# Altium footprint library Package_TO_SOT_SMD.PcbLib: 125 footprints (part 3 of 8)
Each footprint in its own frame and in the unit in brackets; x right, y up, seen from the top. Pads: shape width x height; smd on the part's side, far side on the other; paste and mask are expansions set on the pad; w line width, h text height; cw(c..) or ccw(c..) is an arc to the next point about the centre after c.
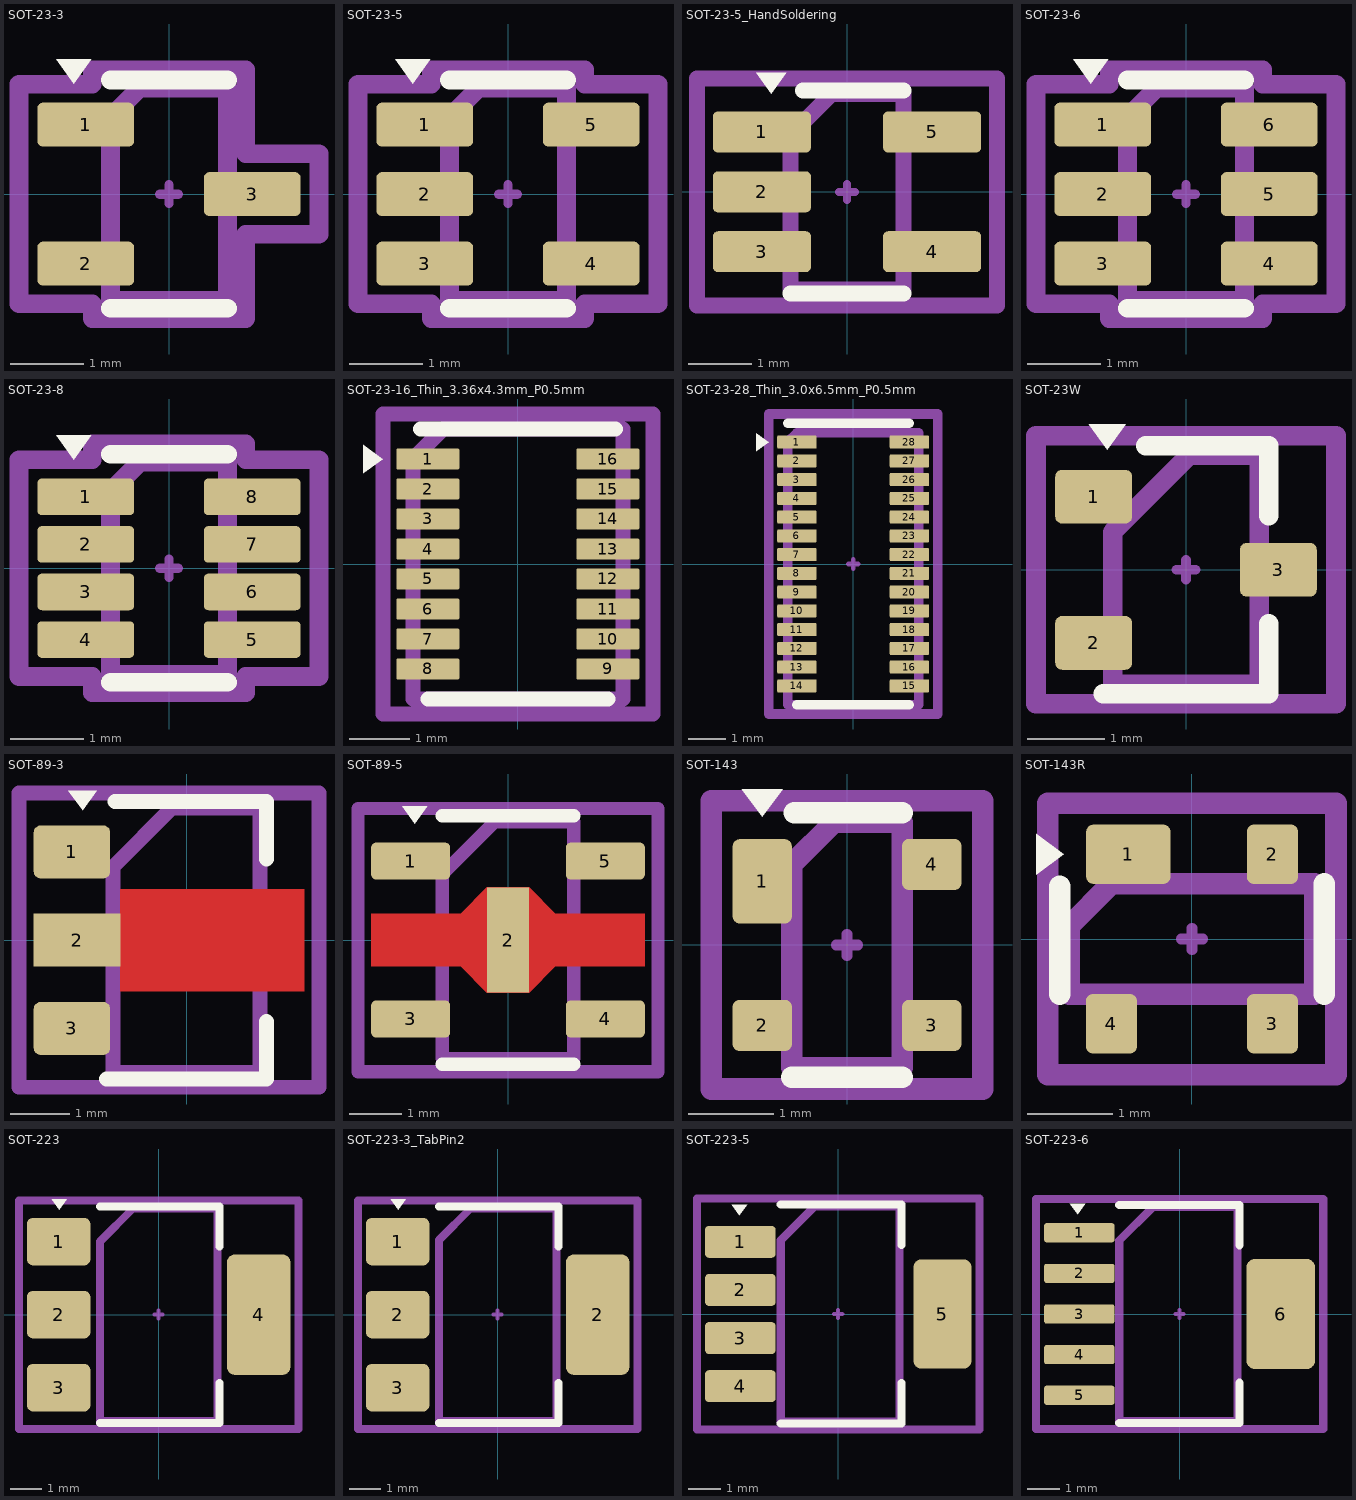
[diagram p2: the footprints below, top view; thin cyan lines are the x and y axes]

## SOT-23-3 [mm] "SOT-23-3"
pads (3):
  rrect25% 1.325x0.6 smd: 1(-1.138,0.95) 2(-1.138,-0.95) 3(1.138,0)
F.SilkS:
  region: -1.3,1.51 -1.54,1.84 -1.06,1.84
  lines w0.254: -0.8,-1.56 0,-1.56 0.8,-1.56 ; -0.8,1.56 0,1.56 0.8,1.56
Top Component Center:
  lines w0.127: -0.127,0 0.127,0 ; 0,-0.127 0,0.127
Top Assembly:
  lines w0.254: -0.8,-1.45 -0.8,1.05 -0.4,1.45 0.8,1.45 0.8,-1.45 -0.8,-1.45
Top Courtyard:
  lines w0.254: -2.05,-1.5 -2.05,1.5 -1.05,1.5 -1.05,1.7 1.05,1.7 1.05,0.55 2.05,0.55 2.05,-0.55 1.05,-0.55 1.05,-1.7 -1.05,-1.7 -1.05,-1.5 -2.05,-1.5
Top Designator:
  text ".Designator" at -2.253,-0.22 h1
3D body "SOT-23-3.step": height 1.2, standoff 0, extent -1.25,-1.5 1.25,1.5

## SOT-23-5 [mm] "SOT-23-5"
pads (5):
  rrect25% 1.325x0.6 smd: 1(-1.138,0.95) 2(-1.138,0) 3(-1.138,-0.95) 4(1.138,-0.95) 5(1.138,0.95)
F.SilkS:
  region: -1.3,1.51 -1.54,1.84 -1.06,1.84
  lines w0.254: -0.8,-1.56 0,-1.56 0.8,-1.56 ; -0.8,1.56 0,1.56 0.8,1.56
Top Component Center:
  lines w0.127: -0.127,0 0.127,0 ; 0,-0.127 0,0.127
Top Assembly:
  lines w0.254: -0.8,-1.45 -0.8,1.05 -0.4,1.45 0.8,1.45 0.8,-1.45 -0.8,-1.45
Top Courtyard:
  lines w0.254: -2.05,-1.5 -2.05,1.5 -1.05,1.5 -1.05,1.7 1.05,1.7 1.05,1.5 2.05,1.5 2.05,-1.5 1.05,-1.5 1.05,-1.7 -1.05,-1.7 -1.05,-1.5 -2.05,-1.5
Top Designator:
  text ".Designator" at -3.432,-0.345 h1.52
3D body "SOT-23-5.step": height 1.55, standoff 0, extent -1.4,-1.45 1.4,1.45

## SOT-23-5_HandSoldering [mm] "SOT-23-5_HandSoldering"
pads (5):
  rrect25% 1.56x0.65 smd: 1(-1.35,0.95) 2(-1.35,0) 3(-1.35,-0.95) 4(1.35,-0.95) 5(1.35,0.95)
F.SilkS:
  region: -1.2,1.56 -1.44,1.89 -0.96,1.89
  lines w0.254: -0.9,-1.61 0.9,-1.61 ; -0.7,1.61 0.1,1.61 0.9,1.61
Top Component Center:
  lines w0.127: -0.127,0 0.127,0 ; 0,-0.127 0,0.127
Top Assembly:
  lines w0.254: -0.9,-1.55 -0.9,0.9 -0.25,1.55 0.9,1.55 0.9,-1.55 -0.9,-1.55
Top Courtyard:
  lines w0.254: -2.38,-1.8 -2.38,1.8 2.38,1.8 2.38,-1.8 -2.38,-1.8
Top Designator:
  text ".Designator" at -3.432,-0.345 h1.52
3D body "SOT-23-5.step": height 1.55, standoff 0, extent -1.4,-1.45 1.4,1.45

## SOT-23-6 [mm] "SOT-23-6"
pads (6):
  rrect25% 1.325x0.6 smd: 1(-1.138,0.95) 2(-1.138,0) 3(-1.138,-0.95) 4(1.138,-0.95) 5(1.138,0) 6(1.138,0.95)
F.SilkS:
  region: -1.3,1.51 -1.54,1.84 -1.06,1.84
  lines w0.254: -0.8,-1.56 0,-1.56 0.8,-1.56 ; -0.8,1.56 0,1.56 0.8,1.56
Top Component Center:
  lines w0.127: -0.127,0 0.127,0 ; 0,-0.127 0,0.127
Top Assembly:
  lines w0.254: -0.8,-1.45 -0.8,1.05 -0.4,1.45 0.8,1.45 0.8,-1.45 -0.8,-1.45
Top Courtyard:
  lines w0.254: -2.05,-1.5 -2.05,1.5 -1.05,1.5 -1.05,1.7 1.05,1.7 1.05,1.5 2.05,1.5 2.05,-1.5 1.05,-1.5 1.05,-1.7 -1.05,-1.7 -1.05,-1.5 -2.05,-1.5
Top Designator:
  text ".Designator" at -3.432,-0.345 h1.52
3D body "SOT-23-6.step": height 1.55, standoff 0, extent -1.4,-1.45 1.4,1.45

## SOT-23-8 [mm] "SOT-23-8"
pads (8):
  rrect25% 1.325x0.5 smd: 1(-1.138,0.975) 2(-1.138,0.325) 3(-1.138,-0.325) 4(-1.138,-0.975) 5(1.138,-0.975) 6(1.138,-0.325) 7(1.138,0.325) 8(1.138,0.975)
F.SilkS:
  region: -1.3,1.485 -1.54,1.815 -1.06,1.815
  lines w0.254: -0.8,-1.56 0,-1.56 0.8,-1.56 ; -0.8,1.56 0,1.56 0.8,1.56
Top Component Center:
  lines w0.127: -0.127,0 0.127,0 ; 0,-0.127 0,0.127
Top Assembly:
  lines w0.254: -0.8,-1.45 -0.8,1.05 -0.4,1.45 0.8,1.45 0.8,-1.45 -0.8,-1.45
Top Courtyard:
  lines w0.254: -2.05,-1.48 -2.05,1.48 -1.05,1.48 -1.05,1.7 1.05,1.7 1.05,1.48 2.05,1.48 2.05,-1.48 1.05,-1.48 1.05,-1.7 -1.05,-1.7 -1.05,-1.48 -2.05,-1.48
Top Designator:
  text ".Designator" at -3.432,-0.345 h1.52
3D body "SOT-23-8.step": height 1.2, standoff 0, extent -1.4,-1.45 1.4,1.45

## SOT-23-16_Thin_3.36x4.3mm_P0.5mm [mm]
pads (16):
  rrect15% 1.05x0.35 smd: 1(-1.5,1.75) 2(-1.5,1.25) 3(-1.5,0.75) 4(-1.5,0.25) 5(-1.5,-0.25) 6(-1.5,-0.75) 7(-1.5,-1.25) 8(-1.5,-1.75) 9(1.5,-1.75) 10(1.5,-1.25) 11(1.5,-0.75) 12(1.5,-0.25) 13(1.5,0.25) 14(1.5,0.75) 15(1.5,1.25) 16(1.5,1.75)
F.SilkS:
  region: -2.25,1.75 -2.58,1.51 -2.58,1.99
  lines w0.254: -1.625,2.25 1.625,2.25 ; -1.5,-2.25 1.5,-2.25
Top Assembly:
  lines w0.254: -1.75,-2.25 -1.75,1.75 -1.25,2.25 1.75,2.25 1.75,-2.25 -1.75,-2.25
  text "'.Designator'" at -3.897,-0.357 h1
Top Courtyard:
  lines w0.254: -2.25,-2.5 -2.25,2.5 2.25,2.5 2.25,-2.5 -2.25,-2.5

## SOT-23-28_Thin_3.0x6.5mm_P0.5mm [mm]
pads (28):
  rrect15% 1.05x0.35 smd: 1(-1.5,3.25) 2(-1.5,2.75) 3(-1.5,2.25) 4(-1.5,1.75) 5(-1.5,1.25) 6(-1.5,0.75) 7(-1.5,0.25) 8(-1.5,-0.25) 9(-1.5,-0.75) 10(-1.5,-1.25) 11(-1.5,-1.75) 12(-1.5,-2.25) 13(-1.5,-2.75) 14(-1.5,-3.25) 15(1.5,-3.25) 16(1.5,-2.75) 17(1.5,-2.25) 18(1.5,-1.75) 19(1.5,-1.25) 20(1.5,-0.75) 21(1.5,-0.25) 22(1.5,0.25) 23(1.5,0.75) 24(1.5,1.25) 25(1.5,1.75) 26(1.5,2.25) 27(1.5,2.75) 28(1.5,3.25)
F.SilkS:
  region: -2.25,3.25 -2.58,3.01 -2.58,3.49
  lines w0.254: -1.75,3.75 1.5,3.75 ; -1.5,-3.75 1.5,-3.75
Top Component Center:
  lines w0.127: -0.127,0 0.127,0 ; 0,-0.127 0,0.127
Top Assembly:
  lines w0.254: -1.75,-3.75 1.75,-3.75 1.75,3.5 -1.5,3.5 -1.75,3.25 -1.75,-3.75
  text "'.Designator'" at -3.897,-0.357 h1
Top Courtyard:
  lines w0.254: -2.25,-4 2.25,-4 2.25,4 -2.25,4 -2.25,-3.75 -2.25,-4

## SOT-23W [mm] "SOT-23W"
pads (3):
  rrect25% 1x0.7 smd: 1(-1.2,0.95) 2(-1.2,-0.95) 3(1.2,0)
F.SilkS:
  region: -1.025,1.56 -1.265,1.89 -0.785,1.89
  lines w0.254: -1.075,-1.61 1.075,-1.61 1.075,-0.7 ; -0.525,1.61 1.075,1.61 1.075,0.7
Top Component Center:
  lines w0.127: -0.127,0 0.127,0 ; 0,-0.127 0,0.127
Top Assembly:
  lines w0.254: -0.955,-1.49 0.955,-1.49 0.955,1.49 0.045,1.49 -0.955,0.49 -0.955,-1.49
Top Courtyard:
  lines w0.254: -1.95,-1.74 1.95,-1.74 1.95,1.74 -1.95,1.74 -1.95,-1.74
Top Designator:
  text ".Designator" at -2.253,-0.226 h1
3D body "SOT-23W.step": height 1, standoff 0, extent -1.45,-1.49 1.45,1.49

## SOT-89-3 [mm] "SOT-89-3"
pads (3):
  rrect25% 1.3x0.9 smd: 1(-1.95,1.5) 3(-1.95,-1.5)
  rect 1.475x0.9 smd: 2(-1.863,0)
F.Cu:
  region: 2,-0.867 -1.125,-0.867 -1.125,0.867 2,0.867
F.SilkS:
  region: -1.77,2.21 -2.01,2.54 -1.53,2.54
  lines w0.254: -1.36,-2.36 1.36,-2.36 1.36,-1.38 ; -1.22,2.36 1.36,2.36 1.36,1.38
F.Paste:
  region: 2,-0.867 -1.125,-0.867 -1.125,0.867 2,0.867
F.Mask:
  region: 2,-0.867 -1.125,-0.867 -1.125,0.867 2,0.867
Top Component Center:
  lines w0.127: -0.127,0 0.127,0 ; 0,-0.127 0,0.127
Top Assembly:
  lines w0.254: -1.25,-2.25 1.25,-2.25 1.25,2.25 -0.25,2.25 -1.25,1.25 -1.25,-2.25
Top Courtyard:
  lines w0.254: -2.85,-2.5 2.25,-2.5 2.25,2.5 -2.85,2.5 -2.85,-2.5
Top Designator:
  text ".Designator" at -3.432,-0.345 h1.52
3D body "SOT-89-3.step": height 1.52, standoff 0, extent -2.25,-2.25 1.75,2.25

## SOT-89-5 [mm] "SOT-89-5"
pads (5):
  rrect25% 1.5x0.7 smd: 1(-1.85,1.5) 3(-1.85,-1.5) 4(1.85,-1.5) 5(1.85,1.5)
  rect 0.8x2 smd: 2(0,0)
F.Cu:
  region: 0.9,0.5 2.6,0.5 2.6,-0.5 0.9,-0.5 0.4,-1 -0.4,-1 -0.9,-0.5 -2.6,-0.5 -2.6,0.5 -0.9,0.5 -0.4,1 0.4,1
F.SilkS:
  region: -1.77,2.21 -2.01,2.54 -1.53,2.54
  lines w0.254: -1.25,-2.36 1.25,-2.36 ; -1.25,2.36 1.25,2.36
F.Paste:
  region: 0.9,0.5 2.6,0.5 2.6,-0.5 0.9,-0.5 0.4,-1 -0.4,-1 -0.9,-0.5 -2.6,-0.5 -2.6,0.5 -0.9,0.5 -0.4,1 0.4,1
F.Mask:
  region: 0.9,0.5 2.6,0.5 2.6,-0.5 0.9,-0.5 0.4,-1 -0.4,-1 -0.9,-0.5 -2.6,-0.5 -2.6,0.5 -0.9,0.5 -0.4,1 0.4,1
Top Component Center:
  lines w0.127: -0.127,0 0.127,0 ; 0,-0.127 0,0.127
Top Assembly:
  lines w0.254: -1.25,-2.25 -1.25,1.25 -0.25,2.25 1.25,2.25 1.25,-2.25 -1.25,-2.25
Top Courtyard:
  lines w0.254: -2.85,-2.5 -2.85,2.5 2.85,2.5 2.85,-2.5 -2.85,-2.5
Top Designator:
  text ".Designator" at -3.432,-0.345 h1.52

## SOT-143 [mm] "SOT-143"
pads (4):
  rrect25% 0.7x1 smd: 1(-1,0.75)
  rrect25% 0.7x0.6 smd: 2(-1,-0.95) 3(1,-0.95) 4(1,0.95)
F.SilkS:
  region: -1,1.51 -1.24,1.84 -0.76,1.84
  lines w0.254: -0.65,-1.56 0.65,-1.56 ; -0.62,1.56 0.65,1.56
Top Component Center:
  lines w0.127: -0.127,0 0.127,0 ; 0,-0.127 0,0.127
Top Assembly:
  lines w0.254: -0.65,-1.45 -0.65,0.95 -0.15,1.45 0.65,1.45 0.65,-1.45 -0.65,-1.45
Top Courtyard:
  lines w0.254: -1.6,-1.7 -1.6,1.7 1.6,1.7 1.6,-1.7 -1.6,-1.7
Top Designator:
  text ".Designator" at -2.253,-0.226 h1
3D body "SOT-143.step": height 1.2, standoff 0, extent -1.4,-1.45 1.4,1.45

## SOT-143R [mm] "SOT-143R"
pads (4):
  rrect25% 1x0.7 smd: 1(-0.75,1)
  rrect25% 0.6x0.7 smd: 2(0.95,1) 3(0.95,-1) 4(-0.95,-1)
F.SilkS:
  region: -1.51,1 -1.84,0.76 -1.84,1.24
  lines w0.254: -1.56,-0.65 -1.56,0.62 ; 1.56,-0.65 1.56,0.65
Top Component Center:
  lines w0.127: -0.127,0 0.127,0 ; 0,-0.127 0,0.127
Top Assembly:
  lines w0.254: -1.45,-0.65 -1.45,0.15 -0.95,0.65 1.45,0.65 1.45,-0.65 -1.45,-0.65
Top Courtyard:
  lines w0.254: -1.7,-1.6 -1.7,1.6 1.7,1.6 1.7,-1.6 -1.7,-1.6
Top Designator:
  text ".Designator" at -3.432,-0.345 h1.52
3D body "SOT-143R.step": height 1.2, standoff 0, extent -1.45,-1.4 1.45,1.4

## SOT-223 [mm] "SOT-223"
pads (4):
  rrect25% 2x1.5 smd: 1(-3.15,2.3) 2(-3.15,0) 3(-3.15,-2.3)
  rrect25% 2x3.8 smd: 4(3.15,0)
F.SilkS:
  region: -3.13,3.31 -3.37,3.64 -2.89,3.64
  lines w0.254: -1.85,-3.41 1.91,-3.41 1.91,-2.15 ; -1.85,3.41 1.91,3.41 1.91,2.15
Top Component Center:
  lines w0.127: -0.127,0 0.127,0 ; 0,-0.127 0,0.127
Top Assembly:
  lines w0.254: -1.85,-3.35 1.85,-3.35 1.85,3.35 -0.8,3.35 -1.85,2.3 -1.85,-3.35
Top Courtyard:
  lines w0.254: -4.4,-3.6 4.4,-3.6 4.4,3.6 -4.4,3.6 -4.4,-3.6
Top Designator:
  text ".Designator" at -3.432,-0.345 h1.52
3D body "SOT-223.step": height 1.7, standoff 0, extent -3.5,-3.25 3.5,3.25

## SOT-223-3_TabPin2 [mm] "SOT-223-3_TabPin2"
pads (4):
  rrect25% 2x1.5 smd: 1(-3.15,2.3) 2(-3.15,0) 3(-3.15,-2.3)
  rrect25% 2x3.8 smd: 2(3.15,0)
F.SilkS:
  region: -3.13,3.31 -3.37,3.64 -2.89,3.64
  lines w0.254: -1.85,-3.41 1.91,-3.41 1.91,-2.15 ; -1.85,3.41 1.91,3.41 1.91,2.15
Top Component Center:
  lines w0.127: -0.127,0 0.127,0 ; 0,-0.127 0,0.127
Top Assembly:
  lines w0.254: -1.85,-3.35 1.85,-3.35 1.85,3.35 -0.85,3.35 -1.85,2.35 -1.85,-3.35
Top Courtyard:
  lines w0.254: -4.4,-3.6 4.4,-3.6 4.4,3.6 -4.4,3.6 -4.4,-3.6
Top Designator:
  text ".Designator" at -3.432,-0.345 h1.52
3D body "SOT-223.step": height 1.7, standoff 0, extent -3.5,-3.25 3.5,3.25

## SOT-223-5 [mm] "SOT-223-5"
pads (5):
  rrect25% 2.2x1 smd: 1(-3.05,2.25) 2(-3.05,0.75) 3(-3.05,-0.75) 4(-3.05,-2.25)
  rrect25% 1.8x3.4 smd: 5(3.25,0)
F.SilkS:
  region: -3.08,3.07 -3.32,3.4 -2.84,3.4
  lines w0.254: -1.787,-3.41 1.973,-3.41 1.973,-2.15 ; -1.787,3.41 1.973,3.41 1.973,2.15
Top Component Center:
  lines w0.127: -0.127,0 0.127,0 ; 0,-0.127 0,0.127
Top Assembly:
  lines w0.254: -1.787,-3.35 1.913,-3.35 1.913,3.35 -0.737,3.35 -1.787,2.3 -1.787,-3.35
Top Courtyard:
  lines w0.254: -4.4,-3.6 4.4,-3.6 4.4,3.6 -4.4,3.6 -4.4,-3.6
Top Designator:
  text ".Designator" at -3.432,-0.345 h1.52

## SOT-223-6 [mm] "SOT-223-6"
pads (6):
  rrect25% 2.2x0.6 smd: 1(-3.137,2.54) 2(-3.137,1.27) 3(-3.137,0) 4(-3.137,-1.27) 5(-3.137,-2.54)
  rrect25% 2.15x3.45 smd: 6(3.163,0)
F.SilkS:
  region: -3.19,3.12 -3.43,3.45 -2.95,3.45
  lines w0.254: -1.887,-3.41 1.873,-3.41 1.873,-2.15 ; -1.887,3.41 1.873,3.41 1.873,2.15
Top Component Center:
  lines w0.127: -0.127,0 0.127,0 ; 0,-0.127 0,0.127
Top Assembly:
  lines w0.254: -1.887,-3.35 -1.887,2.3 -0.837,3.35 1.813,3.35 1.813,-3.35 -1.887,-3.35
Top Courtyard:
  lines w0.254: -4.49,-3.6 -4.49,3.6 4.49,3.6 4.49,-3.6 -4.49,-3.6
Top Designator:
  text ".Designator" at -3.432,-0.345 h1.52